# Altium schematic symbol library SCH - OPTOISOLATORS - ONSEMI FOD0721.SchLib: 1 symbol
Pins are listed as number, name and electrical type; pins without a type are passive.

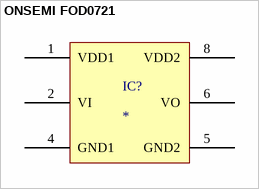
[diagram p0: symbol ONSEMI FOD0721]

## ONSEMI FOD0721
designator IC?
pins: 1 VDD1, 2 VI, 4 GND1, 5 GND2, 6 VO, 8 VDD2